# EAGLE library part 93C46B-I_SN (library eeprom)
Serial EEPROM 1K, 64 X 16 Source: Datasheet <https://componentsearchengine.com/Datasheets/1/93C46B-I_SN.pdf>
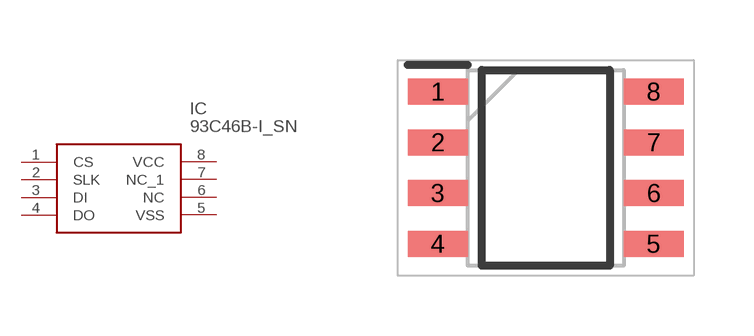
[diagram p2: symbol with the pads of SOIC127P600X175-8N-1; footprint SOIC127P600X175-8N-1]

Designator prefix IC

## 93C46B-I_SN (DESCRIPTION: Serial EEPROM 1K, 64 X 16; HEIGHT: 1.75mm; MANUFACTURER_NAME: Microchip; MANUFACTURER_PART_NUMBER: 93C46B-I/SN; MOUSER_PART_NUMBER: 579-93C46B-I/SN)  [SOIC127P600X175-8N-1]
1  CS  in
2  SLK
3  DI
4  DO
5  VSS  pwr
6  NC  nc
7  NC_1
8  VCC  pwr

## Footprint SOIC127P600X175-8N-1 (pad centres in mm)
8-Lead(SN) SOIC
smd 1.5 x 0.65: 1 -2.7,1.905; 2 -2.7,0.635; 3 -2.7,-0.635; 4 -2.7,-1.905; 5 2.7,-1.905; 6 2.7,-0.635; 7 2.7,0.635; 8 2.7,1.905